# Altium integrated library Lattice Semiconductor ispMACH 4000V.IntLib: 226 symbols (part 19 of 33)
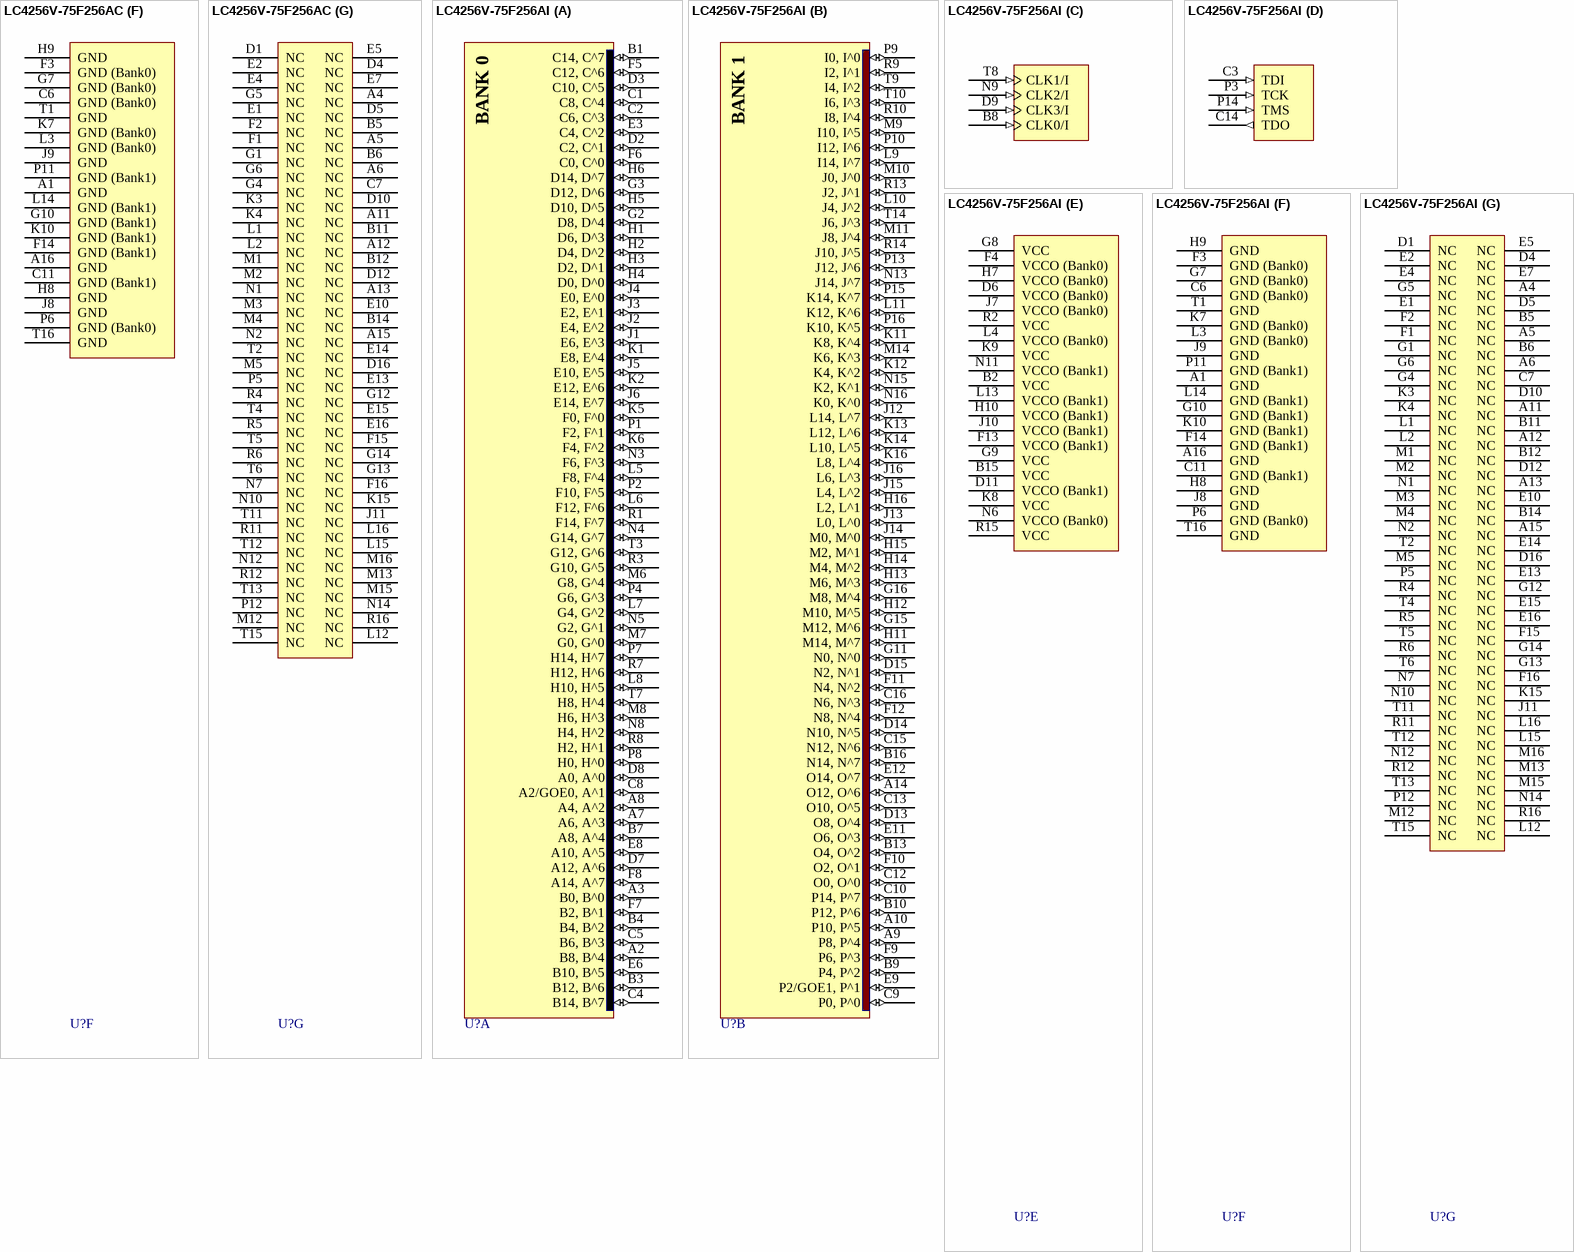
[diagram p145: symbols LC4256V-75F256AC to LC4256V-75F256AI]

## LC4256V-75F256AI
designator U?
ispMACH 4256 SuperFAST High Density PLD, 3.3 V, 128 User I/Os, 256-Ball fpBGA, 7.5 ns, Industrial Grade; DatasheetVersion: ver22.3, Mar-2007; PackageVersion: ver01.8, Dec-2008; PackageReference: fpBGA256; PackageDescription: 256-Ball Fine Pitch Ball Grid Array (fpBGA256); Code_IPC: BGA100P16X16-256; ComponentLink1Description: Manufacturer URL; ComponentLink1URL: http://www.latticesemi.com/; ComponentLink2Description: Datasheet; ComponentLink2URL: http://www.latticesemi.com/dynamic/view_document.cfm?document_id=3646
footprint fpBGA256 (BGA, 256-Leads, Body 17x17mm, Pitch 1mm)
part A pins: A2 B8, B^4 (io) "General purpose I/O.", A3 B0, B^0 (io) "General purpose I/O.", A7 A6, A^3 (io) "General purpose I/O.", A8 A4, A^2 (io) "General purpose I/O.", B1 C14, C^7 (io) "General purpose I/O.", B3 B12, B^6 (io) "General purpose I/O.", B4 B4, B^2 (io) "General purpose I/O.", B7 A8, A^4 (io) "General purpose I/O.", C1 C8, C^4 (io) "General purpose I/O.", C2 C6, C^3 (io) "General purpose I/O.", C4 B14, B^7 (io) "General purpose I/O.", C5 B6, B^3 (io) "General purpose I/O.", C8 A2/GOE0, A^1 (io) "Either Global Output Enable Input or general I/O.", D2 C2, C^1 (io) "General purpose I/O.", D3 C10, C^5 (io) "General purpose I/O.", D7 A12, A^6 (io) "General purpose I/O.", D8 A0, A^0 (io) "General purpose I/O.", E3 C4, C^2 (io) "General purpose I/O.", E6 B10, B^5 (io) "General purpose I/O.", E8 A10, A^5 (io) "General purpose I/O.", F5 C12, C^6 (io) "General purpose I/O.", F6 C0, C^0 (io) "General purpose I/O.", F7 B2, B^1 (io) "General purpose I/O.", F8 A14, A^7 (io) "General purpose I/O.", G2 D8, D^4 (io) "General purpose I/O.", G3 D12, D^6 (io) "General purpose I/O.", H1 D6, D^3 (io) "General purpose I/O.", H2 D4, D^2 (io) "General purpose I/O.", H3 D2, D^1 (io) "General purpose I/O.", H4 D0, D^0 (io) "General purpose I/O.", H5 D10, D^5 (io) "General purpose I/O.", H6 D14, D^7 (io) "General purpose I/O.", J1 E6, E^3 (io) "General purpose I/O.", J2 E4, E^2 (io) "General purpose I/O.", J3 E2, E^1 (io) "General purpose I/O.", J4 E0, E^0 (io) "General purpose I/O.", J5 E10, E^5 (io) "General purpose I/O.", J6 E14, E^7 (io) "General purpose I/O.", K1 E8, E^4 (io) "General purpose I/O.", K2 E12, E^6 (io) "General purpose I/O.", K5 F0, F^0 (io) "General purpose I/O.", K6 F4, F^2 (io) "General purpose I/O.", L5 F8, F^4 (io) "General purpose I/O.", L6 F12, F^6 (io) "General purpose I/O.", L7 G4, G^2 (io) "General purpose I/O.", L8 H10, H^5 (io) "General purpose I/O.", M6 G8, G^4 (io) "General purpose I/O.", M7 G0, G^0 (io) "General purpose I/O.", M8 H6, H^3 (io) "General purpose I/O.", N3 F6, F^3 (io) "General purpose I/O.", N4 G14, G^7 (io) "General purpose I/O.", N5 G2, G^1 (io) "General purpose I/O.", N8 H4, H^2 (io) "General purpose I/O.", P1 F2, F^1 (io) "General purpose I/O.", P2 F10, F^5 (io) "General purpose I/O.", P4 G6, G^3 (io) "General purpose I/O.", P7 H14, H^7 (io) "General purpose I/O.", P8 H0, H^0 (io) "General purpose I/O.", R1 F14, F^7 (io) "General purpose I/O.", R3 G10, G^5 (io) "General purpose I/O.", R7 H12, H^6 (io) "General purpose I/O.", R8 H2, H^1 (io) "General purpose I/O.", T3 G12, G^6 (io) "General purpose I/O.", T7 H8, H^4 (io) "General purpose I/O."
part B pins: A9 P8, P^4 (io) "General purpose I/O.", A10 P10, P^5 (io) "General purpose I/O.", A14 O12, O^6 (io) "General purpose I/O.", B9 P4, P^2 (io) "General purpose I/O.", B10 P12, P^6 (io) "General purpose I/O.", B13 O4, O^2 (io) "General purpose I/O.", B16 N14, N^7 (io) "General purpose I/O.", C9 P0, P^0 (io) "General purpose I/O.", C10 P14, P^7 (io) "General purpose I/O.", C12 O0, O^0 (io) "General purpose I/O.", C13 O10, O^5 (io) "General purpose I/O.", C15 N12, N^6 (io) "General purpose I/O.", C16 N6, N^3 (io) "General purpose I/O.", D13 O8, O^4 (io) "General purpose I/O.", D14 N10, N^5 (io) "General purpose I/O.", D15 N2, N^1 (io) "General purpose I/O.", E9 P2/GOE1, P^1 (io) "Either Global Output Enable Input or general I/O.", E11 O6, O^3 (io) "General purpose I/O.", E12 O14, O^7 (io) "General purpose I/O.", F9 P6, P^3 (io) "General purpose I/O.", F10 O2, O^1 (io) "General purpose I/O.", F11 N4, N^2 (io) "General purpose I/O.", F12 N8, N^4 (io) "General purpose I/O.", G11 N0, N^0 (io) "General purpose I/O.", G15 M12, M^6 (io) "General purpose I/O.", G16 M8, M^4 (io) "General purpose I/O.", H11 M14, M^7 (io) "General purpose I/O.", H12 M10, M^5 (io) "General purpose I/O.", H13 M6, M^3 (io) "General purpose I/O.", H14 M4, M^2 (io) "General purpose I/O.", H15 M2, M^1 (io) "General purpose I/O.", H16 L2, L^1 (io) "General purpose I/O.", J12 L14, L^7 (io) "General purpose I/O.", J13 L0, L^0 (io) "General purpose I/O.", J14 M0, M^0 (io) "General purpose I/O.", J15 L4, L^2 (io) "General purpose I/O.", J16 L6, L^3 (io) "General purpose I/O.", K11 K8, K^4 (io) "General purpose I/O.", K12 K4, K^2 (io) "General purpose I/O.", K13 L12, L^6 (io) "General purpose I/O.", K14 L10, L^5 (io) "General purpose I/O.", K16 L8, L^4 (io) "General purpose I/O.", L9 I14, I^7 (io) "General purpose I/O.", L10 J4, J^2 (io) "General purpose I/O.", L11 K12, K^6 (io) "General purpose I/O.", M9 I10, I^5 (io) "General purpose I/O.", M10 J0, J^0 (io) "General purpose I/O.", M11 J8, J^4 (io) "General purpose I/O.", M14 K6, K^3 (io) "General purpose I/O.", N13 J14, J^7 (io) "General purpose I/O.", N15 K2, K^1 (io) "General purpose I/O.", N16 K0, K^0 (io) "General purpose I/O.", P9 I0, I^0 (io) "General purpose I/O.", P10 I12, I^6 (io) "General purpose I/O.", P13 J12, J^6 (io) "General purpose I/O.", P15 K14, K^7 (io) "General purpose I/O.", P16 K10, K^5 (io) "General purpose I/O.", R9 I2, I^1 (io) "General purpose I/O.", R10 I8, I^4 (io) "General purpose I/O.", R13 J2, J^1 (io) "General purpose I/O.", R14 J10, J^5 (io) "General purpose I/O.", T9 I4, I^2 (io) "General purpose I/O.", T10 I6, I^3 (io) "General purpose I/O.", T14 J6, J^3 (io) "General purpose I/O."
part C pins: B8 CLK0/I (in) "Either CLK input or input.", D9 CLK3/I (in) "Either CLK input or input.", N9 CLK2/I (in) "Either CLK input or input.", T8 CLK1/I (in) "Either CLK input or input."
part D pins: C3 TDI (in) "Test Data Input. Loads data into device using 1149.1 state machine.", C14 TDO (out) "Test Data Output. Shifts data out of device using 1149.1.", P3 TCK (in) "Test Clock Input for 1149.1 state machine.", P14 TMS (in) "Test Mode Select Input to control 1149.1 state machine."
part E pins: B2 VCC (power) "Power supply for logic core and JTAG port.", B15 VCC (power) "Power supply for logic core and JTAG port.", D6 VCCO (Bank0) (power) "Power supply pin for I/O bank.", D11 VCCO (Bank1) (power) "Power supply pin for I/O bank.", F4 VCCO (Bank0) (power) "Power supply pin for I/O bank.", F13 VCCO (Bank1) (power) "Power supply pin for I/O bank.", G8 VCC (power) "Power supply for logic core and JTAG port.", G9 VCC (power) "Power supply for logic core and JTAG port.", H7 VCCO (Bank0) (power) "Power supply pin for I/O bank.", H10 VCCO (Bank1) (power) "Power supply pin for I/O bank.", J7 VCCO (Bank0) (power) "Power supply pin for I/O bank.", J10 VCCO (Bank1) (power) "Power supply pin for I/O bank.", K8 VCC (power) "Power supply for logic core and JTAG port.", K9 VCC (power) "Power supply for logic core and JTAG port.", L4 VCCO (Bank0) (power) "Power supply pin for I/O bank.", L13 VCCO (Bank1) (power) "Power supply pin for I/O bank.", N6 VCCO (Bank0) (power) "Power supply pin for I/O bank.", N11 VCCO (Bank1) (power) "Power supply pin for I/O bank.", R2 VCC (power) "Power supply for logic core and JTAG port.", R15 VCC (power) "Power supply for logic core and JTAG port."
part F pins: A1 GND (power) "Ground", A16 GND (power) "Ground", C6 GND (Bank0) (power) "I/O Ground", C11 GND (Bank1) (power) "I/O Ground", F3 GND (Bank0) (power) "I/O Ground", F14 GND (Bank1) (power) "I/O Ground", G7 GND (Bank0) (power) "I/O Ground", G10 GND (Bank1) (power) "I/O Ground", H8 GND (power) "Ground", H9 GND (power) "Ground", J8 GND (power) "Ground", J9 GND (power) "Ground", K7 GND (Bank0) (power) "I/O Ground", K10 GND (Bank1) (power) "I/O Ground", L3 GND (Bank0) (power) "I/O Ground", L14 GND (Bank1) (power) "I/O Ground", P6 GND (Bank0) (power) "I/O Ground", P11 GND (Bank1) (power) "I/O Ground", T1 GND (power) "Ground", T16 GND (power) "Ground"
part G pins: A4 NC "Not Connected.", A5 NC "Not Connected.", A6 NC "Not Connected.", A11 NC "Not Connected.", A12 NC "Not Connected.", A13 NC "Not Connected.", A15 NC "Not Connected.", B5 NC "Not Connected.", B6 NC "Not Connected.", B11 NC "Not Connected.", B12 NC "Not Connected.", B14 NC "Not Connected.", C7 NC "Not Connected.", D1 NC "Not Connected.", D4 NC "Not Connected.", D5 NC "Not Connected.", D10 NC "Not Connected.", D12 NC "Not Connected.", D16 NC "Not Connected.", E1 NC "Not Connected.", E2 NC "Not Connected.", E4 NC "Not Connected.", E5 NC "Not Connected.", E7 NC "Not Connected.", E10 NC "Not Connected.", E13 NC "Not Connected.", E14 NC "Not Connected.", E15 NC "Not Connected.", E16 NC "Not Connected.", F1 NC "Not Connected.", F2 NC "Not Connected.", F15 NC "Not Connected.", F16 NC "Not Connected.", G1 NC "Not Connected.", G4 NC "Not Connected.", G5 NC "Not Connected.", G6 NC "Not Connected.", G12 NC "Not Connected.", G13 NC "Not Connected.", G14 NC "Not Connected.", J11 NC "Not Connected.", K3 NC "Not Connected.", K4 NC "Not Connected.", K15 NC "Not Connected.", L1 NC "Not Connected.", L2 NC "Not Connected.", L12 NC "Not Connected.", L15 NC "Not Connected.", L16 NC "Not Connected.", M1 NC "Not Connected.", M2 NC "Not Connected.", M3 NC "Not Connected.", M4 NC "Not Connected.", M5 NC "Not Connected.", M12 NC "Not Connected.", M13 NC "Not Connected.", M15 NC "Not Connected.", M16 NC "Not Connected.", N1 NC "Not Connected.", N2 NC "Not Connected.", N7 NC "Not Connected.", N10 NC "Not Connected.", N12 NC "Not Connected.", N14 NC "Not Connected.", P5 NC "Not Connected.", P12 NC "Not Connected.", R4 NC "Not Connected.", R5 NC "Not Connected.", R6 NC "Not Connected.", R11 NC "Not Connected.", R12 NC "Not Connected.", R16 NC "Not Connected.", T2 NC "Not Connected.", T4 NC "Not Connected.", T5 NC "Not Connected.", T6 NC "Not Connected.", T11 NC "Not Connected.", T12 NC "Not Connected.", T13 NC "Not Connected.", T15 NC "Not Connected."
part A text: BANK 0
part B text: BANK 1

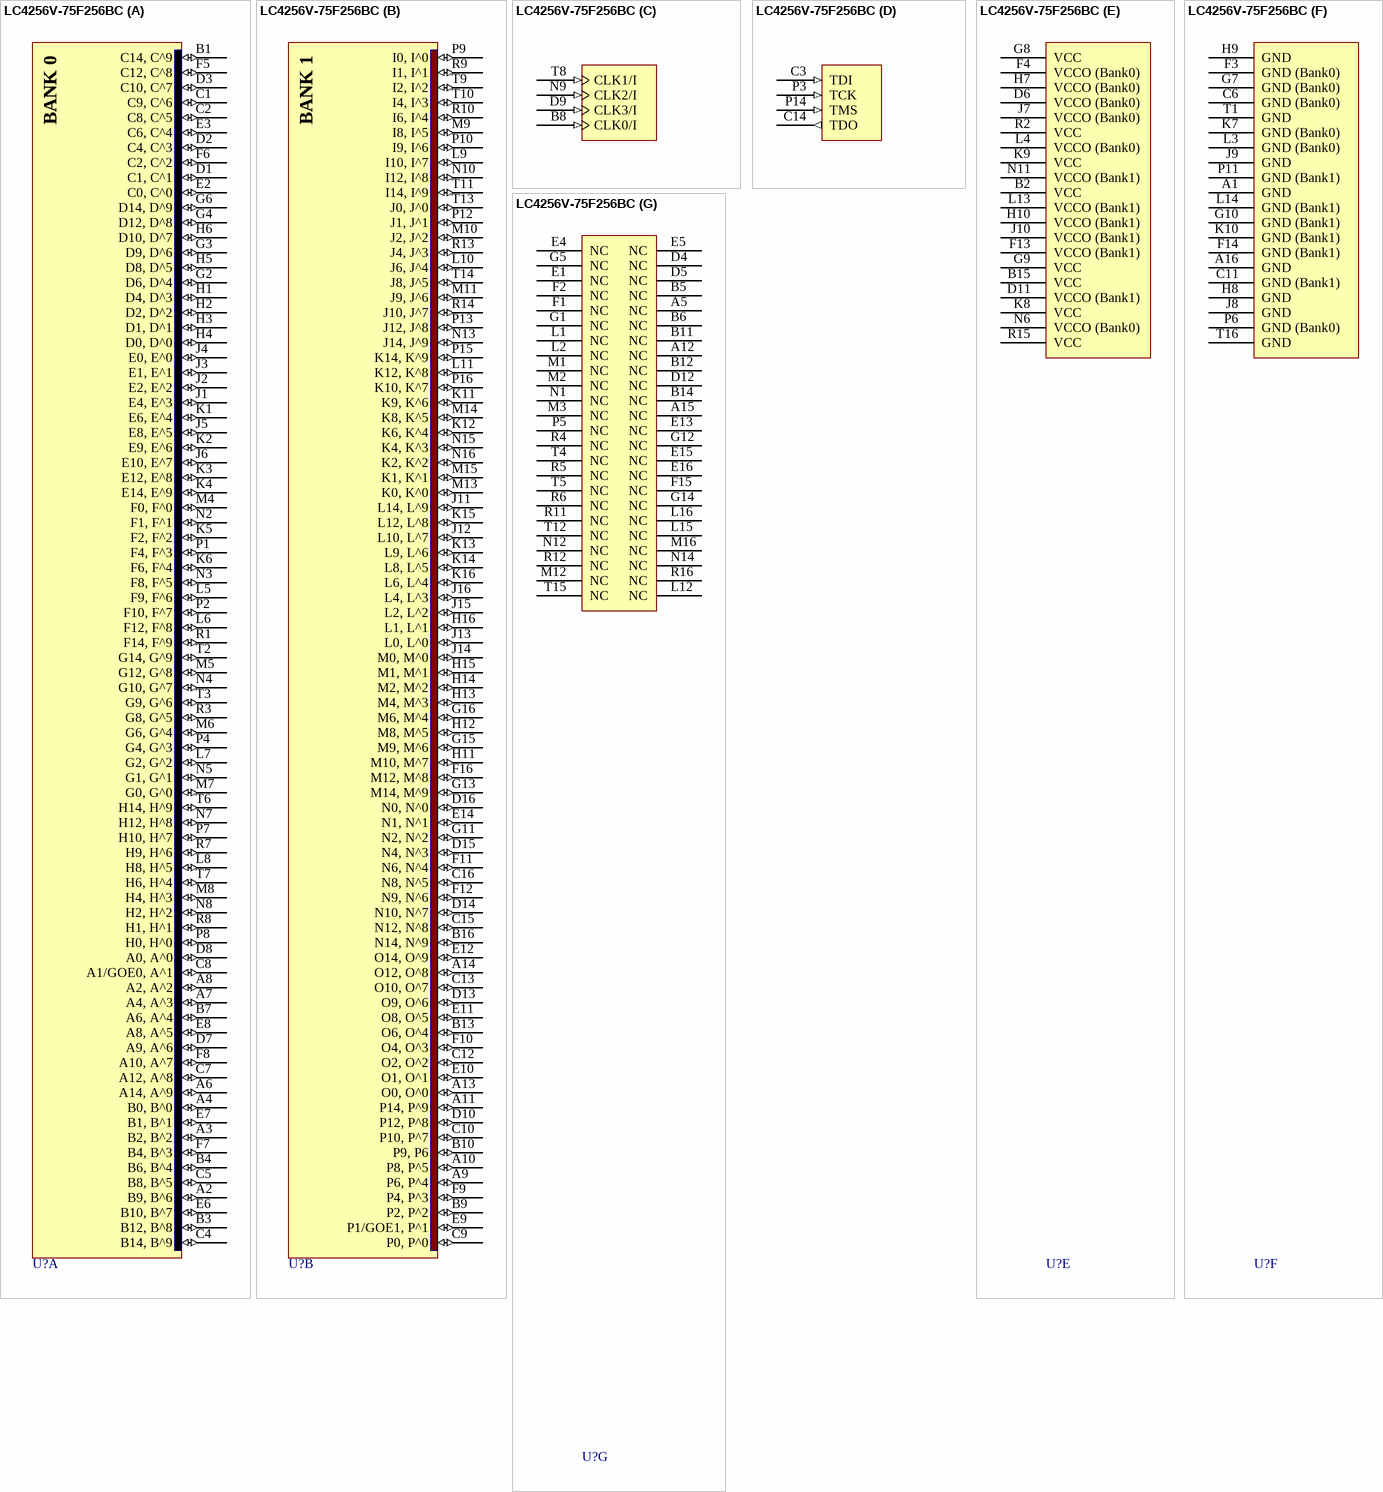
[diagram p69: symbol LC4256V-75F256BC]

## LC4256V-75F256BC
designator U?
ispMACH 4256 SuperFAST High Density PLD, 3.3 V, 160 User I/Os, 256-Ball fpBGA, 7.5 ns, Commercial Grade; DatasheetVersion: ver22.3, Mar-2007; PackageVersion: ver01.8, Dec-2008; PackageReference: fpBGA256; PackageDescription: 256-Ball Fine Pitch Ball Grid Array (fpBGA256); Code_IPC: BGA100P16X16-256; ComponentLink1Description: Manufacturer URL; ComponentLink1URL: http://www.latticesemi.com/; ComponentLink2Description: Datasheet; ComponentLink2URL: http://www.latticesemi.com/dynamic/view_document.cfm?document_id=3646
footprint fpBGA256 (BGA, 256-Leads, Body 17x17mm, Pitch 1mm)
part A pins: A2 B9, B^6 (io) "General purpose I/O.", A3 B2, B^2 (io) "General purpose I/O.", A4 B0, B^0 (io) "General purpose I/O.", A6 A14, A^9 (io) "General purpose I/O.", A7 A4, A^3 (io) "General purpose I/O.", A8 A2, A^2 (io) "General purpose I/O.", B1 C14, C^9 (io) "General purpose I/O.", B3 B12, B^8 (io) "General purpose I/O.", B4 B6, B^4 (io) "General purpose I/O.", B7 A6, A^4 (io) "General purpose I/O.", C1 C9, C^6 (io) "General purpose I/O.", C2 C8, C^5 (io) "General purpose I/O.", C4 B14, B^9 (io) "General purpose I/O.", C5 B8, B^5 (io) "General purpose I/O.", C7 A12, A^8 (io) "General purpose I/O.", C8 A1/GOE0, A^1 (io) "Either Global Output Enable Input or general I/O.", D1 C1, C^1 (io) "General purpose I/O.", D2 C4, C^3 (io) "General purpose I/O.", D3 C10, C^7 (io) "General purpose I/O.", D7 A9, A^6 (io) "General purpose I/O.", D8 A0, A^0 (io) "General purpose I/O.", E2 C0, C^0 (io) "General purpose I/O.", E3 C6, C^4 (io) "General purpose I/O.", E6 B10, B^7 (io) "General purpose I/O.", E7 B1, B^1 (io) "General purpose I/O.", E8 A8, A^5 (io) "General purpose I/O.", F5 C12, C^8 (io) "General purpose I/O.", F6 C2, C^2 (io) "General purpose I/O.", F7 B4, B^3 (io) "General purpose I/O.", F8 A10, A^7 (io) "General purpose I/O.", G2 D6, D^4 (io) "General purpose I/O.", G3 D9, D^6 (io) "General purpose I/O.", G4 D12, D^8 (io) "General purpose I/O.", G6 D14, D^9 (io) "General purpose I/O.", H1 D4, D^3 (io) "General purpose I/O.", H2 D2, D^2 (io) "General purpose I/O.", H3 D1, D^1 (io) "General purpose I/O.", H4 D0, D^0 (io) "General purpose I/O.", H5 D8, D^5 (io) "General purpose I/O.", H6 D10, D^7 (io) "General purpose I/O.", J1 E4, E^3 (io) "General purpose I/O.", J2 E2, E^2 (io) "General purpose I/O.", J3 E1, E^1 (io) "General purpose I/O.", J4 E0, E^0 (io) "General purpose I/O.", J5 E8, E^5 (io) "General purpose I/O.", J6 E10, E^7 (io) "General purpose I/O.", K1 E6, E^4 (io) "General purpose I/O.", K2 E9, E^6 (io) "General purpose I/O.", K3 E12, E^8 (io) "General purpose I/O.", K4 E14, E^9 (io) "General purpose I/O.", K5 F2, F^2 (io) "General purpose I/O.", K6 F6, F^4 (io) "General purpose I/O.", L5 F9, F^6 (io) "General purpose I/O.", L6 F12, F^8 (io) "General purpose I/O.", L7 G2, G^2 (io) "General purpose I/O.", L8 H8, H^5 (io) "General purpose I/O.", M4 F0, F^0 (io) "General purpose I/O.", M5 G12, G^8 (io) "General purpose I/O.", M6 G6, G^4 (io) "General purpose I/O.", M7 G0, G^0 (io) "General purpose I/O.", M8 H4, H^3 (io) "General purpose I/O.", N2 F1, F^1 (io) "General purpose I/O.", N3 F8, F^5 (io) "General purpose I/O.", N4 G10, G^7 (io) "General purpose I/O.", N5 G1, G^1 (io) "General purpose I/O.", N7 H12, H^8 (io) "General purpose I/O.", N8 H2, H^2 (io) "General purpose I/O.", P1 F4, F^3 (io) "General purpose I/O.", P2 F10, F^7 (io) "General purpose I/O.", P4 G4, G^3 (io) "General purpose I/O.", P7 H10, H^7 (io) "General purpose I/O.", P8 H0, H^0 (io) "General purpose I/O.", R1 F14, F^9 (io) "General purpose I/O.", R3 G8, G^5 (io) "General purpose I/O.", R7 H9, H^6 (io) "General purpose I/O.", R8 H1, H^1 (io) "General purpose I/O.", T2 G14, G^9 (io) "General purpose I/O.", T3 G9, G^6 (io) "General purpose I/O.", T6 H14, H^9 (io) "General purpose I/O.", T7 H6, H^4 (io) "General purpose I/O."
part B pins: A9 P6, P^4 (io) "General purpose I/O.", A10 P8, P^5 (io) "General purpose I/O.", A11 P14, P^9 (io) "General purpose I/O.", A13 O0, O^0 (io) "General purpose I/O.", A14 O12, O^8 (io) "General purpose I/O.", B9 P2, P^2 (io) "General purpose I/O.", B10 P9, P6 (io) "General purpose I/O.", B13 O6, O^4 (io) "General purpose I/O.", B16 N14, N^9 (io) "General purpose I/O.", C9 P0, P^0 (io) "General purpose I/O.", C10 P10, P^7 (io) "General purpose I/O.", C12 O2, O^2 (io) "General purpose I/O.", C13 O10, O^7 (io) "General purpose I/O.", C15 N12, N^8 (io) "General purpose I/O.", C16 N8, N^5 (io) "General purpose I/O.", D10 P12, P^8 (io) "General purpose I/O.", D13 O9, O^6 (io) "General purpose I/O.", D14 N10, N^7 (io) "General purpose I/O.", D15 N4, N^3 (io) "General purpose I/O.", D16 N0, N^0 (io) "General purpose I/O.", E9 P1/GOE1, P^1 (io) "Either Global Output Enable Input or general I/O.", E10 O1, O^1 (io) "General purpose I/O.", E11 O8, O^5 (io) "General purpose I/O.", E12 O14, O^9 (io) "General purpose I/O.", E14 N1, N^1 (io) "General purpose I/O.", F9 P4, P^3 (io) "General purpose I/O.", F10 O4, O^3 (io) "General purpose I/O.", F11 N6, N^4 (io) "General purpose I/O.", F12 N9, N^6 (io) "General purpose I/O.", F16 M12, M^8 (io) "General purpose I/O.", G11 N2, N^2 (io) "General purpose I/O.", G13 M14, M^9 (io) "General purpose I/O.", G15 M9, M^6 (io) "General purpose I/O.", G16 M6, M^4 (io) "General purpose I/O.", H11 M10, M^7 (io) "General purpose I/O.", H12 M8, M^5 (io) "General purpose I/O.", H13 M4, M^3 (io) "General purpose I/O.", H14 M2, M^2 (io) "General purpose I/O.", H15 M1, M^1 (io) "General purpose I/O.", H16 L1, L^1 (io) "General purpose I/O.", J11 L14, L^9 (io) "General purpose I/O.", J12 L10, L^7 (io) "General purpose I/O.", J13 L0, L^0 (io) "General purpose I/O.", J14 M0, M^0 (io) "General purpose I/O.", J15 L2, L^2 (io) "General purpose I/O.", J16 L4, L^3 (io) "General purpose I/O.", K11 K9, K^6 (io) "General purpose I/O.", K12 K6, K^4 (io) "General purpose I/O.", K13 L9, L^6 (io) "General purpose I/O.", K14 L8, L^5 (io) "General purpose I/O.", K15 L12, L^8 (io) "General purpose I/O.", K16 L6, L^4 (io) "General purpose I/O.", L9 I10, I^7 (io) "General purpose I/O.", L10 J6, J^4 (io) "General purpose I/O.", L11 K12, K^8 (io) "General purpose I/O.", M9 I8, I^5 (io) "General purpose I/O.", M10 J2, J^2 (io) "General purpose I/O.", M11 J9, J^6 (io) "General purpose I/O.", M13 K0, K^0 (io) "General purpose I/O.", M14 K8, K^5 (io) "General purpose I/O.", M15 K1, K^1 (io) "General purpose I/O.", N10 I12, I^8 (io) "General purpose I/O.", N13 J14, J^9 (io) "General purpose I/O.", N15 K4, K^3 (io) "General purpose I/O.", N16 K2, K^2 (io) "General purpose I/O.", P9 I0, I^0 (io) "General purpose I/O.", P10 I9, I^6 (io) "General purpose I/O.", P12 J1, J^1 (io) "General purpose I/O.", P13 J12, J^8 (io) "General purpose I/O.", P15 K14, K^9 (io) "General purpose I/O.", P16 K10, K^7 (io) "General purpose I/O.", R9 I1, I^1 (io) "General purpose I/O.", R10 I6, I^4 (io) "General purpose I/O.", R13 J4, J^3 (io) "General purpose I/O.", R14 J10, J^7 (io) "General purpose I/O.", T9 I2, I^2 (io) "General purpose I/O.", T10 I4, I^3 (io) "General purpose I/O.", T11 I14, I^9 (io) "General purpose I/O.", T13 J0, J^0 (io) "General purpose I/O.", T14 J8, J^5 (io) "General purpose I/O."
part C pins: B8 CLK0/I (in) "Either CLK input or input.", D9 CLK3/I (in) "Either CLK input or input.", N9 CLK2/I (in) "Either CLK input or input.", T8 CLK1/I (in) "Either CLK input or input."
part D pins: C3 TDI (in) "Test Data Input. Loads data into device using 1149.1 state machine.", C14 TDO (out) "Test Data Output. Shifts data out of device using 1149.1.", P3 TCK (in) "Test Clock Input for 1149.1 state machine.", P14 TMS (in) "Test Mode Select Input to control 1149.1 state machine."
part E pins: B2 VCC (power) "Power supply for logic core and JTAG port.", B15 VCC (power) "Power supply for logic core and JTAG port.", D6 VCCO (Bank0) (power) "Power supply pin for I/O bank.", D11 VCCO (Bank1) (power) "Power supply pin for I/O bank.", F4 VCCO (Bank0) (power) "Power supply pin for I/O bank.", F13 VCCO (Bank1) (power) "Power supply pin for I/O bank.", G8 VCC (power) "Power supply for logic core and JTAG port.", G9 VCC (power) "Power supply for logic core and JTAG port.", H7 VCCO (Bank0) (power) "Power supply pin for I/O bank.", H10 VCCO (Bank1) (power) "Power supply pin for I/O bank.", J7 VCCO (Bank0) (power) "Power supply pin for I/O bank.", J10 VCCO (Bank1) (power) "Power supply pin for I/O bank.", K8 VCC (power) "Power supply for logic core and JTAG port.", K9 VCC (power) "Power supply for logic core and JTAG port.", L4 VCCO (Bank0) (power) "Power supply pin for I/O bank.", L13 VCCO (Bank1) (power) "Power supply pin for I/O bank.", N6 VCCO (Bank0) (power) "Power supply pin for I/O bank.", N11 VCCO (Bank1) (power) "Power supply pin for I/O bank.", R2 VCC (power) "Power supply for logic core and JTAG port.", R15 VCC (power) "Power supply for logic core and JTAG port."
part F pins: A1 GND (power) "Ground", A16 GND (power) "Ground", C6 GND (Bank0) (power) "I/O Ground", C11 GND (Bank1) (power) "I/O Ground", F3 GND (Bank0) (power) "I/O Ground", F14 GND (Bank1) (power) "I/O Ground", G7 GND (Bank0) (power) "I/O Ground", G10 GND (Bank1) (power) "I/O Ground", H8 GND (power) "Ground", H9 GND (power) "Ground", J8 GND (power) "Ground", J9 GND (power) "Ground", K7 GND (Bank0) (power) "I/O Ground", K10 GND (Bank1) (power) "I/O Ground", L3 GND (Bank0) (power) "I/O Ground", L14 GND (Bank1) (power) "I/O Ground", P6 GND (Bank0) (power) "I/O Ground", P11 GND (Bank1) (power) "I/O Ground", T1 GND (power) "Ground", T16 GND (power) "Ground"
part G pins: A5 NC "Not Connected.", A12 NC "Not Connected.", A15 NC "Not Connected.", B5 NC "Not Connected.", B6 NC "Not Connected.", B11 NC "Not Connected.", B12 NC "Not Connected.", B14 NC "Not Connected.", D4 NC "Not Connected.", D5 NC "Not Connected.", D12 NC "Not Connected.", E1 NC "Not Connected.", E4 NC "Not Connected.", E5 NC "Not Connected.", E13 NC "Not Connected.", E15 NC "Not Connected.", E16 NC "Not Connected.", F1 NC "Not Connected.", F2 NC "Not Connected.", F15 NC "Not Connected.", G1 NC "Not Connected.", G5 NC "Not Connected.", G12 NC "Not Connected.", G14 NC "Not Connected.", L1 NC "Not Connected.", L2 NC "Not Connected.", L12 NC "Not Connected.", L15 NC "Not Connected.", L16 NC "Not Connected.", M1 NC "Not Connected.", M2 NC "Not Connected.", M3 NC "Not Connected.", M12 NC "Not Connected.", M16 NC "Not Connected.", N1 NC "Not Connected.", N12 NC "Not Connected.", N14 NC "Not Connected.", P5 NC "Not Connected.", R4 NC "Not Connected.", R5 NC "Not Connected.", R6 NC "Not Connected.", R11 NC "Not Connected.", R12 NC "Not Connected.", R16 NC "Not Connected.", T4 NC "Not Connected.", T5 NC "Not Connected.", T12 NC "Not Connected.", T15 NC "Not Connected."
part A text: BANK 0
part B text: BANK 1

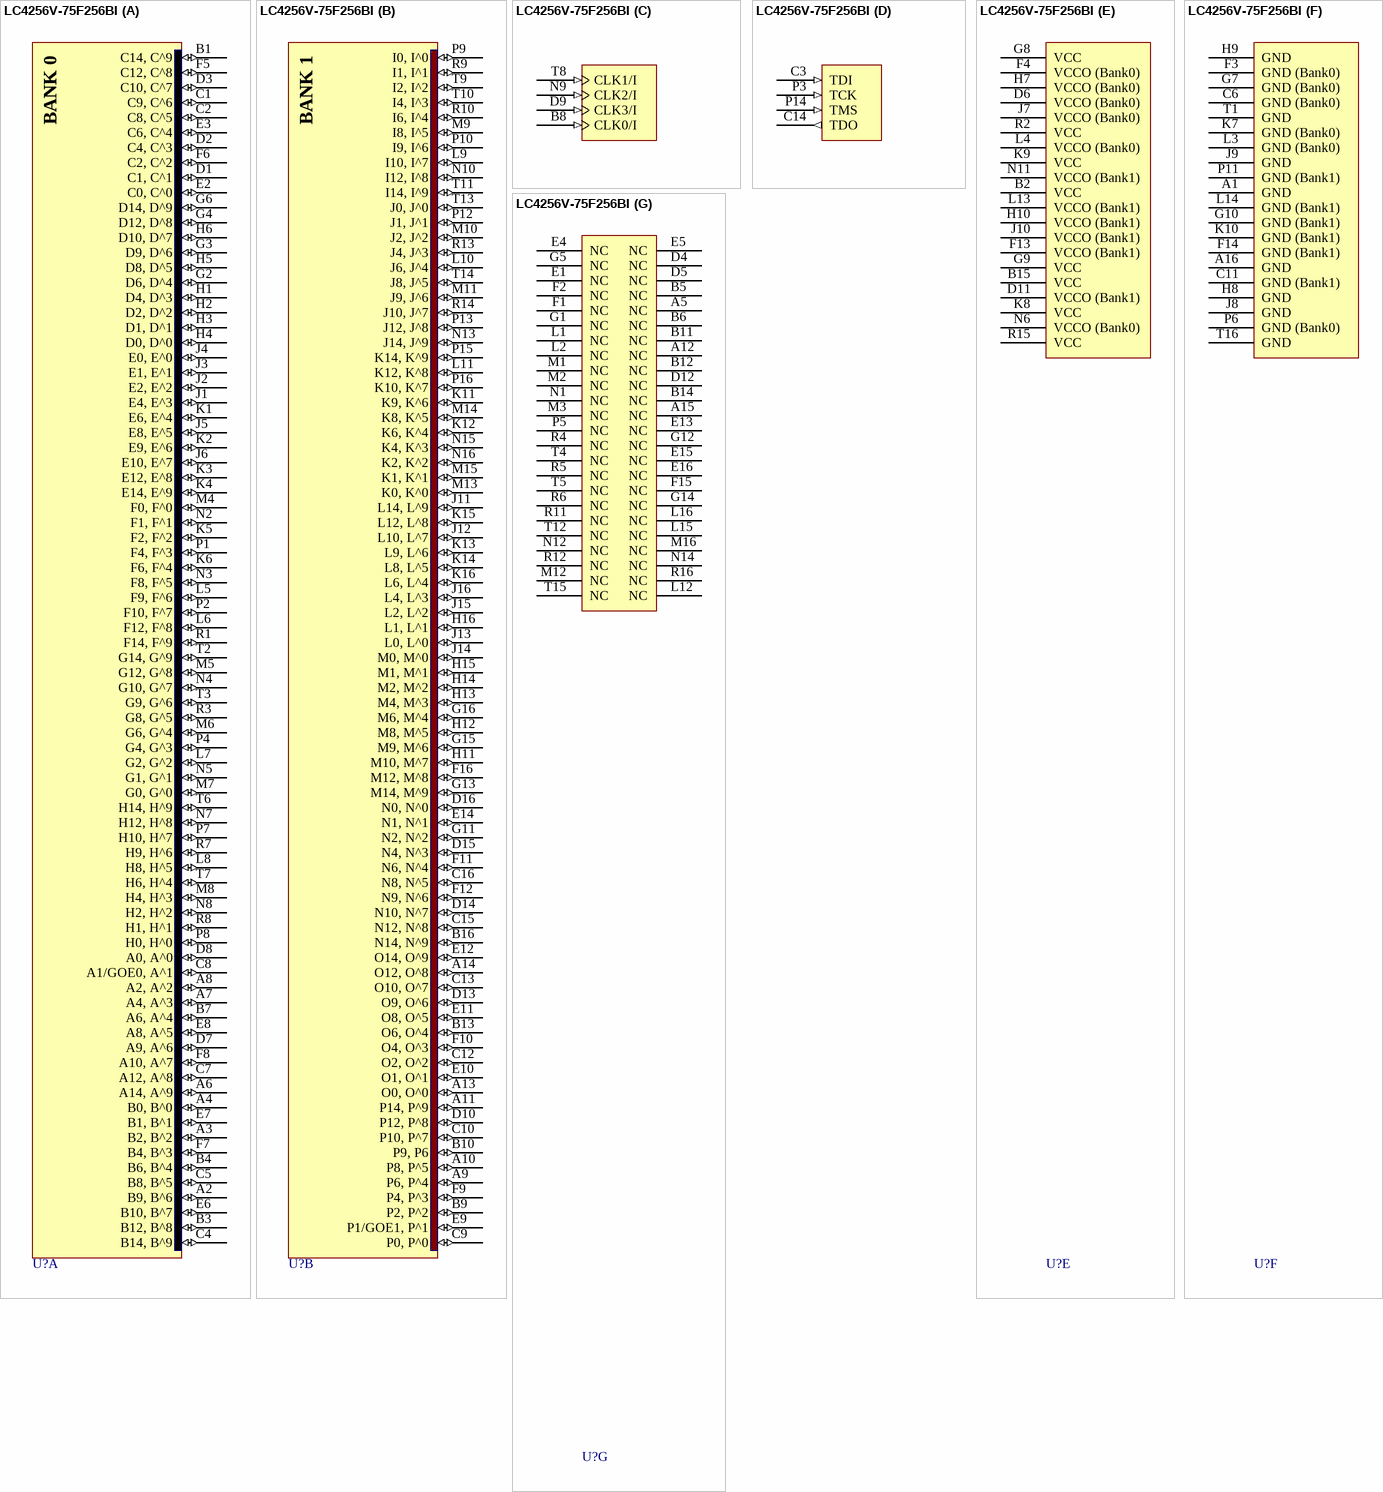
[diagram p70: symbol LC4256V-75F256BI]

## LC4256V-75F256BI
designator U?
ispMACH 4256 SuperFAST High Density PLD, 3.3 V, 160 User I/Os, 256-Ball fpBGA, 7.5 ns, Industrial Grade; DatasheetVersion: ver22.3, Mar-2007; PackageVersion: ver01.8, Dec-2008; PackageReference: fpBGA256; PackageDescription: 256-Ball Fine Pitch Ball Grid Array (fpBGA256); Code_IPC: BGA100P16X16-256; ComponentLink1Description: Manufacturer URL; ComponentLink1URL: http://www.latticesemi.com/; ComponentLink2Description: Datasheet; ComponentLink2URL: http://www.latticesemi.com/dynamic/view_document.cfm?document_id=3646
footprint fpBGA256 (BGA, 256-Leads, Body 17x17mm, Pitch 1mm)
part A pins: A2 B9, B^6 (io) "General purpose I/O.", A3 B2, B^2 (io) "General purpose I/O.", A4 B0, B^0 (io) "General purpose I/O.", A6 A14, A^9 (io) "General purpose I/O.", A7 A4, A^3 (io) "General purpose I/O.", A8 A2, A^2 (io) "General purpose I/O.", B1 C14, C^9 (io) "General purpose I/O.", B3 B12, B^8 (io) "General purpose I/O.", B4 B6, B^4 (io) "General purpose I/O.", B7 A6, A^4 (io) "General purpose I/O.", C1 C9, C^6 (io) "General purpose I/O.", C2 C8, C^5 (io) "General purpose I/O.", C4 B14, B^9 (io) "General purpose I/O.", C5 B8, B^5 (io) "General purpose I/O.", C7 A12, A^8 (io) "General purpose I/O.", C8 A1/GOE0, A^1 (io) "Either Global Output Enable Input or general I/O.", D1 C1, C^1 (io) "General purpose I/O.", D2 C4, C^3 (io) "General purpose I/O.", D3 C10, C^7 (io) "General purpose I/O.", D7 A9, A^6 (io) "General purpose I/O.", D8 A0, A^0 (io) "General purpose I/O.", E2 C0, C^0 (io) "General purpose I/O.", E3 C6, C^4 (io) "General purpose I/O.", E6 B10, B^7 (io) "General purpose I/O.", E7 B1, B^1 (io) "General purpose I/O.", E8 A8, A^5 (io) "General purpose I/O.", F5 C12, C^8 (io) "General purpose I/O.", F6 C2, C^2 (io) "General purpose I/O.", F7 B4, B^3 (io) "General purpose I/O.", F8 A10, A^7 (io) "General purpose I/O.", G2 D6, D^4 (io) "General purpose I/O.", G3 D9, D^6 (io) "General purpose I/O.", G4 D12, D^8 (io) "General purpose I/O.", G6 D14, D^9 (io) "General purpose I/O.", H1 D4, D^3 (io) "General purpose I/O.", H2 D2, D^2 (io) "General purpose I/O.", H3 D1, D^1 (io) "General purpose I/O.", H4 D0, D^0 (io) "General purpose I/O.", H5 D8, D^5 (io) "General purpose I/O.", H6 D10, D^7 (io) "General purpose I/O.", J1 E4, E^3 (io) "General purpose I/O.", J2 E2, E^2 (io) "General purpose I/O.", J3 E1, E^1 (io) "General purpose I/O.", J4 E0, E^0 (io) "General purpose I/O.", J5 E8, E^5 (io) "General purpose I/O.", J6 E10, E^7 (io) "General purpose I/O.", K1 E6, E^4 (io) "General purpose I/O.", K2 E9, E^6 (io) "General purpose I/O.", K3 E12, E^8 (io) "General purpose I/O.", K4 E14, E^9 (io) "General purpose I/O.", K5 F2, F^2 (io) "General purpose I/O.", K6 F6, F^4 (io) "General purpose I/O.", L5 F9, F^6 (io) "General purpose I/O.", L6 F12, F^8 (io) "General purpose I/O.", L7 G2, G^2 (io) "General purpose I/O.", L8 H8, H^5 (io) "General purpose I/O.", M4 F0, F^0 (io) "General purpose I/O.", M5 G12, G^8 (io) "General purpose I/O.", M6 G6, G^4 (io) "General purpose I/O.", M7 G0, G^0 (io) "General purpose I/O.", M8 H4, H^3 (io) "General purpose I/O.", N2 F1, F^1 (io) "General purpose I/O.", N3 F8, F^5 (io) "General purpose I/O.", N4 G10, G^7 (io) "General purpose I/O.", N5 G1, G^1 (io) "General purpose I/O.", N7 H12, H^8 (io) "General purpose I/O.", N8 H2, H^2 (io) "General purpose I/O.", P1 F4, F^3 (io) "General purpose I/O.", P2 F10, F^7 (io) "General purpose I/O.", P4 G4, G^3 (io) "General purpose I/O.", P7 H10, H^7 (io) "General purpose I/O.", P8 H0, H^0 (io) "General purpose I/O.", R1 F14, F^9 (io) "General purpose I/O.", R3 G8, G^5 (io) "General purpose I/O.", R7 H9, H^6 (io) "General purpose I/O.", R8 H1, H^1 (io) "General purpose I/O.", T2 G14, G^9 (io) "General purpose I/O.", T3 G9, G^6 (io) "General purpose I/O.", T6 H14, H^9 (io) "General purpose I/O.", T7 H6, H^4 (io) "General purpose I/O."
part B pins: A9 P6, P^4 (io) "General purpose I/O.", A10 P8, P^5 (io) "General purpose I/O.", A11 P14, P^9 (io) "General purpose I/O.", A13 O0, O^0 (io) "General purpose I/O.", A14 O12, O^8 (io) "General purpose I/O.", B9 P2, P^2 (io) "General purpose I/O.", B10 P9, P6 (io) "General purpose I/O.", B13 O6, O^4 (io) "General purpose I/O.", B16 N14, N^9 (io) "General purpose I/O.", C9 P0, P^0 (io) "General purpose I/O.", C10 P10, P^7 (io) "General purpose I/O.", C12 O2, O^2 (io) "General purpose I/O.", C13 O10, O^7 (io) "General purpose I/O.", C15 N12, N^8 (io) "General purpose I/O.", C16 N8, N^5 (io) "General purpose I/O.", D10 P12, P^8 (io) "General purpose I/O.", D13 O9, O^6 (io) "General purpose I/O.", D14 N10, N^7 (io) "General purpose I/O.", D15 N4, N^3 (io) "General purpose I/O.", D16 N0, N^0 (io) "General purpose I/O.", E9 P1/GOE1, P^1 (io) "Either Global Output Enable Input or general I/O.", E10 O1, O^1 (io) "General purpose I/O.", E11 O8, O^5 (io) "General purpose I/O.", E12 O14, O^9 (io) "General purpose I/O.", E14 N1, N^1 (io) "General purpose I/O.", F9 P4, P^3 (io) "General purpose I/O.", F10 O4, O^3 (io) "General purpose I/O.", F11 N6, N^4 (io) "General purpose I/O.", F12 N9, N^6 (io) "General purpose I/O.", F16 M12, M^8 (io) "General purpose I/O.", G11 N2, N^2 (io) "General purpose I/O.", G13 M14, M^9 (io) "General purpose I/O.", G15 M9, M^6 (io) "General purpose I/O.", G16 M6, M^4 (io) "General purpose I/O.", H11 M10, M^7 (io) "General purpose I/O.", H12 M8, M^5 (io) "General purpose I/O.", H13 M4, M^3 (io) "General purpose I/O.", H14 M2, M^2 (io) "General purpose I/O.", H15 M1, M^1 (io) "General purpose I/O.", H16 L1, L^1 (io) "General purpose I/O.", J11 L14, L^9 (io) "General purpose I/O.", J12 L10, L^7 (io) "General purpose I/O.", J13 L0, L^0 (io) "General purpose I/O.", J14 M0, M^0 (io) "General purpose I/O.", J15 L2, L^2 (io) "General purpose I/O.", J16 L4, L^3 (io) "General purpose I/O.", K11 K9, K^6 (io) "General purpose I/O.", K12 K6, K^4 (io) "General purpose I/O.", K13 L9, L^6 (io) "General purpose I/O.", K14 L8, L^5 (io) "General purpose I/O.", K15 L12, L^8 (io) "General purpose I/O.", K16 L6, L^4 (io) "General purpose I/O.", L9 I10, I^7 (io) "General purpose I/O.", L10 J6, J^4 (io) "General purpose I/O.", L11 K12, K^8 (io) "General purpose I/O.", M9 I8, I^5 (io) "General purpose I/O.", M10 J2, J^2 (io) "General purpose I/O.", M11 J9, J^6 (io) "General purpose I/O.", M13 K0, K^0 (io) "General purpose I/O.", M14 K8, K^5 (io) "General purpose I/O.", M15 K1, K^1 (io) "General purpose I/O.", N10 I12, I^8 (io) "General purpose I/O.", N13 J14, J^9 (io) "General purpose I/O.", N15 K4, K^3 (io) "General purpose I/O.", N16 K2, K^2 (io) "General purpose I/O.", P9 I0, I^0 (io) "General purpose I/O.", P10 I9, I^6 (io) "General purpose I/O.", P12 J1, J^1 (io) "General purpose I/O.", P13 J12, J^8 (io) "General purpose I/O.", P15 K14, K^9 (io) "General purpose I/O.", P16 K10, K^7 (io) "General purpose I/O.", R9 I1, I^1 (io) "General purpose I/O.", R10 I6, I^4 (io) "General purpose I/O.", R13 J4, J^3 (io) "General purpose I/O.", R14 J10, J^7 (io) "General purpose I/O.", T9 I2, I^2 (io) "General purpose I/O.", T10 I4, I^3 (io) "General purpose I/O.", T11 I14, I^9 (io) "General purpose I/O.", T13 J0, J^0 (io) "General purpose I/O.", T14 J8, J^5 (io) "General purpose I/O."
part C pins: B8 CLK0/I (in) "Either CLK input or input.", D9 CLK3/I (in) "Either CLK input or input.", N9 CLK2/I (in) "Either CLK input or input.", T8 CLK1/I (in) "Either CLK input or input."
part D pins: C3 TDI (in) "Test Data Input. Loads data into device using 1149.1 state machine.", C14 TDO (out) "Test Data Output. Shifts data out of device using 1149.1.", P3 TCK (in) "Test Clock Input for 1149.1 state machine.", P14 TMS (in) "Test Mode Select Input to control 1149.1 state machine."
part E pins: B2 VCC (power) "Power supply for logic core and JTAG port.", B15 VCC (power) "Power supply for logic core and JTAG port.", D6 VCCO (Bank0) (power) "Power supply pin for I/O bank.", D11 VCCO (Bank1) (power) "Power supply pin for I/O bank.", F4 VCCO (Bank0) (power) "Power supply pin for I/O bank.", F13 VCCO (Bank1) (power) "Power supply pin for I/O bank.", G8 VCC (power) "Power supply for logic core and JTAG port.", G9 VCC (power) "Power supply for logic core and JTAG port.", H7 VCCO (Bank0) (power) "Power supply pin for I/O bank.", H10 VCCO (Bank1) (power) "Power supply pin for I/O bank.", J7 VCCO (Bank0) (power) "Power supply pin for I/O bank.", J10 VCCO (Bank1) (power) "Power supply pin for I/O bank.", K8 VCC (power) "Power supply for logic core and JTAG port.", K9 VCC (power) "Power supply for logic core and JTAG port.", L4 VCCO (Bank0) (power) "Power supply pin for I/O bank.", L13 VCCO (Bank1) (power) "Power supply pin for I/O bank.", N6 VCCO (Bank0) (power) "Power supply pin for I/O bank.", N11 VCCO (Bank1) (power) "Power supply pin for I/O bank.", R2 VCC (power) "Power supply for logic core and JTAG port.", R15 VCC (power) "Power supply for logic core and JTAG port."
part F pins: A1 GND (power) "Ground", A16 GND (power) "Ground", C6 GND (Bank0) (power) "I/O Ground", C11 GND (Bank1) (power) "I/O Ground", F3 GND (Bank0) (power) "I/O Ground", F14 GND (Bank1) (power) "I/O Ground", G7 GND (Bank0) (power) "I/O Ground", G10 GND (Bank1) (power) "I/O Ground", H8 GND (power) "Ground", H9 GND (power) "Ground", J8 GND (power) "Ground", J9 GND (power) "Ground", K7 GND (Bank0) (power) "I/O Ground", K10 GND (Bank1) (power) "I/O Ground", L3 GND (Bank0) (power) "I/O Ground", L14 GND (Bank1) (power) "I/O Ground", P6 GND (Bank0) (power) "I/O Ground", P11 GND (Bank1) (power) "I/O Ground", T1 GND (power) "Ground", T16 GND (power) "Ground"
part G pins: A5 NC "Not Connected.", A12 NC "Not Connected.", A15 NC "Not Connected.", B5 NC "Not Connected.", B6 NC "Not Connected.", B11 NC "Not Connected.", B12 NC "Not Connected.", B14 NC "Not Connected.", D4 NC "Not Connected.", D5 NC "Not Connected.", D12 NC "Not Connected.", E1 NC "Not Connected.", E4 NC "Not Connected.", E5 NC "Not Connected.", E13 NC "Not Connected.", E15 NC "Not Connected.", E16 NC "Not Connected.", F1 NC "Not Connected.", F2 NC "Not Connected.", F15 NC "Not Connected.", G1 NC "Not Connected.", G5 NC "Not Connected.", G12 NC "Not Connected.", G14 NC "Not Connected.", L1 NC "Not Connected.", L2 NC "Not Connected.", L12 NC "Not Connected.", L15 NC "Not Connected.", L16 NC "Not Connected.", M1 NC "Not Connected.", M2 NC "Not Connected.", M3 NC "Not Connected.", M12 NC "Not Connected.", M16 NC "Not Connected.", N1 NC "Not Connected.", N12 NC "Not Connected.", N14 NC "Not Connected.", P5 NC "Not Connected.", R4 NC "Not Connected.", R5 NC "Not Connected.", R6 NC "Not Connected.", R11 NC "Not Connected.", R12 NC "Not Connected.", R16 NC "Not Connected.", T4 NC "Not Connected.", T5 NC "Not Connected.", T12 NC "Not Connected.", T15 NC "Not Connected."
part A text: BANK 0
part B text: BANK 1

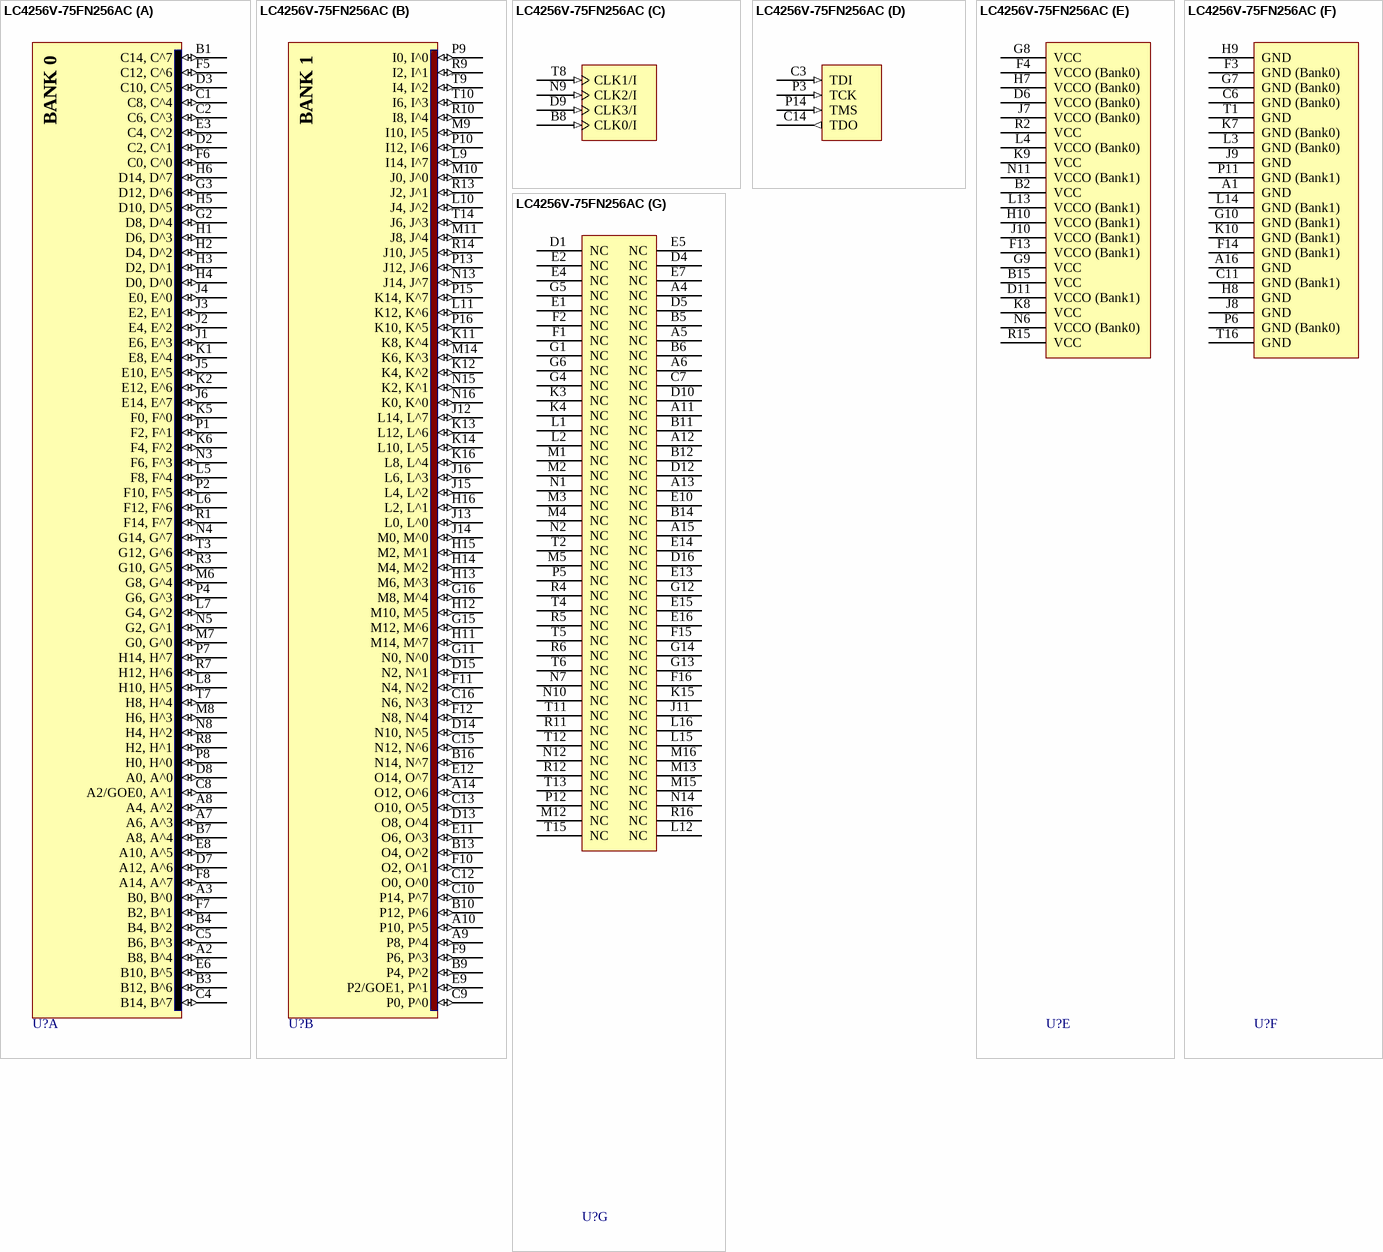
[diagram p71: symbol LC4256V-75FN256AC]

## LC4256V-75FN256AC
designator U?
ispMACH 4256 SuperFAST High Density PLD, 3.3 V, 128 User I/Os, 256-Ball Pb-Free fpBGA, 7.5 ns, Commercial Grade; DatasheetVersion: ver22.3, Mar-2007; PackageVersion: ver01.8, Dec-2008; PackageReference: fpBGA256; PackageDescription: 256-Ball Fine Pitch Ball Grid Array (fpBGA256); Code_IPC: BGA100P16X16-256; ComponentLink1Description: Manufacturer URL; ComponentLink1URL: http://www.latticesemi.com/; ComponentLink2Description: Datasheet; ComponentLink2URL: http://www.latticesemi.com/dynamic/view_document.cfm?document_id=3646
footprint fpBGA256 (BGA, 256-Leads, Body 17x17mm, Pitch 1mm)
part A pins: A2 B8, B^4 (io) "General purpose I/O.", A3 B0, B^0 (io) "General purpose I/O.", A7 A6, A^3 (io) "General purpose I/O.", A8 A4, A^2 (io) "General purpose I/O.", B1 C14, C^7 (io) "General purpose I/O.", B3 B12, B^6 (io) "General purpose I/O.", B4 B4, B^2 (io) "General purpose I/O.", B7 A8, A^4 (io) "General purpose I/O.", C1 C8, C^4 (io) "General purpose I/O.", C2 C6, C^3 (io) "General purpose I/O.", C4 B14, B^7 (io) "General purpose I/O.", C5 B6, B^3 (io) "General purpose I/O.", C8 A2/GOE0, A^1 (io) "Either Global Output Enable Input or general I/O.", D2 C2, C^1 (io) "General purpose I/O.", D3 C10, C^5 (io) "General purpose I/O.", D7 A12, A^6 (io) "General purpose I/O.", D8 A0, A^0 (io) "General purpose I/O.", E3 C4, C^2 (io) "General purpose I/O.", E6 B10, B^5 (io) "General purpose I/O.", E8 A10, A^5 (io) "General purpose I/O.", F5 C12, C^6 (io) "General purpose I/O.", F6 C0, C^0 (io) "General purpose I/O.", F7 B2, B^1 (io) "General purpose I/O.", F8 A14, A^7 (io) "General purpose I/O.", G2 D8, D^4 (io) "General purpose I/O.", G3 D12, D^6 (io) "General purpose I/O.", H1 D6, D^3 (io) "General purpose I/O.", H2 D4, D^2 (io) "General purpose I/O.", H3 D2, D^1 (io) "General purpose I/O.", H4 D0, D^0 (io) "General purpose I/O.", H5 D10, D^5 (io) "General purpose I/O.", H6 D14, D^7 (io) "General purpose I/O.", J1 E6, E^3 (io) "General purpose I/O.", J2 E4, E^2 (io) "General purpose I/O.", J3 E2, E^1 (io) "General purpose I/O.", J4 E0, E^0 (io) "General purpose I/O.", J5 E10, E^5 (io) "General purpose I/O.", J6 E14, E^7 (io) "General purpose I/O.", K1 E8, E^4 (io) "General purpose I/O.", K2 E12, E^6 (io) "General purpose I/O.", K5 F0, F^0 (io) "General purpose I/O.", K6 F4, F^2 (io) "General purpose I/O.", L5 F8, F^4 (io) "General purpose I/O.", L6 F12, F^6 (io) "General purpose I/O.", L7 G4, G^2 (io) "General purpose I/O.", L8 H10, H^5 (io) "General purpose I/O.", M6 G8, G^4 (io) "General purpose I/O.", M7 G0, G^0 (io) "General purpose I/O.", M8 H6, H^3 (io) "General purpose I/O.", N3 F6, F^3 (io) "General purpose I/O.", N4 G14, G^7 (io) "General purpose I/O.", N5 G2, G^1 (io) "General purpose I/O.", N8 H4, H^2 (io) "General purpose I/O.", P1 F2, F^1 (io) "General purpose I/O.", P2 F10, F^5 (io) "General purpose I/O.", P4 G6, G^3 (io) "General purpose I/O.", P7 H14, H^7 (io) "General purpose I/O.", P8 H0, H^0 (io) "General purpose I/O.", R1 F14, F^7 (io) "General purpose I/O.", R3 G10, G^5 (io) "General purpose I/O.", R7 H12, H^6 (io) "General purpose I/O.", R8 H2, H^1 (io) "General purpose I/O.", T3 G12, G^6 (io) "General purpose I/O.", T7 H8, H^4 (io) "General purpose I/O."
part B pins: A9 P8, P^4 (io) "General purpose I/O.", A10 P10, P^5 (io) "General purpose I/O.", A14 O12, O^6 (io) "General purpose I/O.", B9 P4, P^2 (io) "General purpose I/O.", B10 P12, P^6 (io) "General purpose I/O.", B13 O4, O^2 (io) "General purpose I/O.", B16 N14, N^7 (io) "General purpose I/O.", C9 P0, P^0 (io) "General purpose I/O.", C10 P14, P^7 (io) "General purpose I/O.", C12 O0, O^0 (io) "General purpose I/O.", C13 O10, O^5 (io) "General purpose I/O.", C15 N12, N^6 (io) "General purpose I/O.", C16 N6, N^3 (io) "General purpose I/O.", D13 O8, O^4 (io) "General purpose I/O.", D14 N10, N^5 (io) "General purpose I/O.", D15 N2, N^1 (io) "General purpose I/O.", E9 P2/GOE1, P^1 (io) "Either Global Output Enable Input or general I/O.", E11 O6, O^3 (io) "General purpose I/O.", E12 O14, O^7 (io) "General purpose I/O.", F9 P6, P^3 (io) "General purpose I/O.", F10 O2, O^1 (io) "General purpose I/O.", F11 N4, N^2 (io) "General purpose I/O.", F12 N8, N^4 (io) "General purpose I/O.", G11 N0, N^0 (io) "General purpose I/O.", G15 M12, M^6 (io) "General purpose I/O.", G16 M8, M^4 (io) "General purpose I/O.", H11 M14, M^7 (io) "General purpose I/O.", H12 M10, M^5 (io) "General purpose I/O.", H13 M6, M^3 (io) "General purpose I/O.", H14 M4, M^2 (io) "General purpose I/O.", H15 M2, M^1 (io) "General purpose I/O.", H16 L2, L^1 (io) "General purpose I/O.", J12 L14, L^7 (io) "General purpose I/O.", J13 L0, L^0 (io) "General purpose I/O.", J14 M0, M^0 (io) "General purpose I/O.", J15 L4, L^2 (io) "General purpose I/O.", J16 L6, L^3 (io) "General purpose I/O.", K11 K8, K^4 (io) "General purpose I/O.", K12 K4, K^2 (io) "General purpose I/O.", K13 L12, L^6 (io) "General purpose I/O.", K14 L10, L^5 (io) "General purpose I/O.", K16 L8, L^4 (io) "General purpose I/O.", L9 I14, I^7 (io) "General purpose I/O.", L10 J4, J^2 (io) "General purpose I/O.", L11 K12, K^6 (io) "General purpose I/O.", M9 I10, I^5 (io) "General purpose I/O.", M10 J0, J^0 (io) "General purpose I/O.", M11 J8, J^4 (io) "General purpose I/O.", M14 K6, K^3 (io) "General purpose I/O.", N13 J14, J^7 (io) "General purpose I/O.", N15 K2, K^1 (io) "General purpose I/O.", N16 K0, K^0 (io) "General purpose I/O.", P9 I0, I^0 (io) "General purpose I/O.", P10 I12, I^6 (io) "General purpose I/O.", P13 J12, J^6 (io) "General purpose I/O.", P15 K14, K^7 (io) "General purpose I/O.", P16 K10, K^5 (io) "General purpose I/O.", R9 I2, I^1 (io) "General purpose I/O.", R10 I8, I^4 (io) "General purpose I/O.", R13 J2, J^1 (io) "General purpose I/O.", R14 J10, J^5 (io) "General purpose I/O.", T9 I4, I^2 (io) "General purpose I/O.", T10 I6, I^3 (io) "General purpose I/O.", T14 J6, J^3 (io) "General purpose I/O."
part C pins: B8 CLK0/I (in) "Either CLK input or input.", D9 CLK3/I (in) "Either CLK input or input.", N9 CLK2/I (in) "Either CLK input or input.", T8 CLK1/I (in) "Either CLK input or input."
part D pins: C3 TDI (in) "Test Data Input. Loads data into device using 1149.1 state machine.", C14 TDO (out) "Test Data Output. Shifts data out of device using 1149.1.", P3 TCK (in) "Test Clock Input for 1149.1 state machine.", P14 TMS (in) "Test Mode Select Input to control 1149.1 state machine."
part E pins: B2 VCC (power) "Power supply for logic core and JTAG port.", B15 VCC (power) "Power supply for logic core and JTAG port.", D6 VCCO (Bank0) (power) "Power supply pin for I/O bank.", D11 VCCO (Bank1) (power) "Power supply pin for I/O bank.", F4 VCCO (Bank0) (power) "Power supply pin for I/O bank.", F13 VCCO (Bank1) (power) "Power supply pin for I/O bank.", G8 VCC (power) "Power supply for logic core and JTAG port.", G9 VCC (power) "Power supply for logic core and JTAG port.", H7 VCCO (Bank0) (power) "Power supply pin for I/O bank.", H10 VCCO (Bank1) (power) "Power supply pin for I/O bank.", J7 VCCO (Bank0) (power) "Power supply pin for I/O bank.", J10 VCCO (Bank1) (power) "Power supply pin for I/O bank.", K8 VCC (power) "Power supply for logic core and JTAG port.", K9 VCC (power) "Power supply for logic core and JTAG port.", L4 VCCO (Bank0) (power) "Power supply pin for I/O bank.", L13 VCCO (Bank1) (power) "Power supply pin for I/O bank.", N6 VCCO (Bank0) (power) "Power supply pin for I/O bank.", N11 VCCO (Bank1) (power) "Power supply pin for I/O bank.", R2 VCC (power) "Power supply for logic core and JTAG port.", R15 VCC (power) "Power supply for logic core and JTAG port."
part F pins: A1 GND (power) "Ground", A16 GND (power) "Ground", C6 GND (Bank0) (power) "I/O Ground", C11 GND (Bank1) (power) "I/O Ground", F3 GND (Bank0) (power) "I/O Ground", F14 GND (Bank1) (power) "I/O Ground", G7 GND (Bank0) (power) "I/O Ground", G10 GND (Bank1) (power) "I/O Ground", H8 GND (power) "Ground", H9 GND (power) "Ground", J8 GND (power) "Ground", J9 GND (power) "Ground", K7 GND (Bank0) (power) "I/O Ground", K10 GND (Bank1) (power) "I/O Ground", L3 GND (Bank0) (power) "I/O Ground", L14 GND (Bank1) (power) "I/O Ground", P6 GND (Bank0) (power) "I/O Ground", P11 GND (Bank1) (power) "I/O Ground", T1 GND (power) "Ground", T16 GND (power) "Ground"
part G pins: A4 NC "Not Connected.", A5 NC "Not Connected.", A6 NC "Not Connected.", A11 NC "Not Connected.", A12 NC "Not Connected.", A13 NC "Not Connected.", A15 NC "Not Connected.", B5 NC "Not Connected.", B6 NC "Not Connected.", B11 NC "Not Connected.", B12 NC "Not Connected.", B14 NC "Not Connected.", C7 NC "Not Connected.", D1 NC "Not Connected.", D4 NC "Not Connected.", D5 NC "Not Connected.", D10 NC "Not Connected.", D12 NC "Not Connected.", D16 NC "Not Connected.", E1 NC "Not Connected.", E2 NC "Not Connected.", E4 NC "Not Connected.", E5 NC "Not Connected.", E7 NC "Not Connected.", E10 NC "Not Connected.", E13 NC "Not Connected.", E14 NC "Not Connected.", E15 NC "Not Connected.", E16 NC "Not Connected.", F1 NC "Not Connected.", F2 NC "Not Connected.", F15 NC "Not Connected.", F16 NC "Not Connected.", G1 NC "Not Connected.", G4 NC "Not Connected.", G5 NC "Not Connected.", G6 NC "Not Connected.", G12 NC "Not Connected.", G13 NC "Not Connected.", G14 NC "Not Connected.", J11 NC "Not Connected.", K3 NC "Not Connected.", K4 NC "Not Connected.", K15 NC "Not Connected.", L1 NC "Not Connected.", L2 NC "Not Connected.", L12 NC "Not Connected.", L15 NC "Not Connected.", L16 NC "Not Connected.", M1 NC "Not Connected.", M2 NC "Not Connected.", M3 NC "Not Connected.", M4 NC "Not Connected.", M5 NC "Not Connected.", M12 NC "Not Connected.", M13 NC "Not Connected.", M15 NC "Not Connected.", M16 NC "Not Connected.", N1 NC "Not Connected.", N2 NC "Not Connected.", N7 NC "Not Connected.", N10 NC "Not Connected.", N12 NC "Not Connected.", N14 NC "Not Connected.", P5 NC "Not Connected.", P12 NC "Not Connected.", R4 NC "Not Connected.", R5 NC "Not Connected.", R6 NC "Not Connected.", R11 NC "Not Connected.", R12 NC "Not Connected.", R16 NC "Not Connected.", T2 NC "Not Connected.", T4 NC "Not Connected.", T5 NC "Not Connected.", T6 NC "Not Connected.", T11 NC "Not Connected.", T12 NC "Not Connected.", T13 NC "Not Connected.", T15 NC "Not Connected."
part A text: BANK 0
part B text: BANK 1

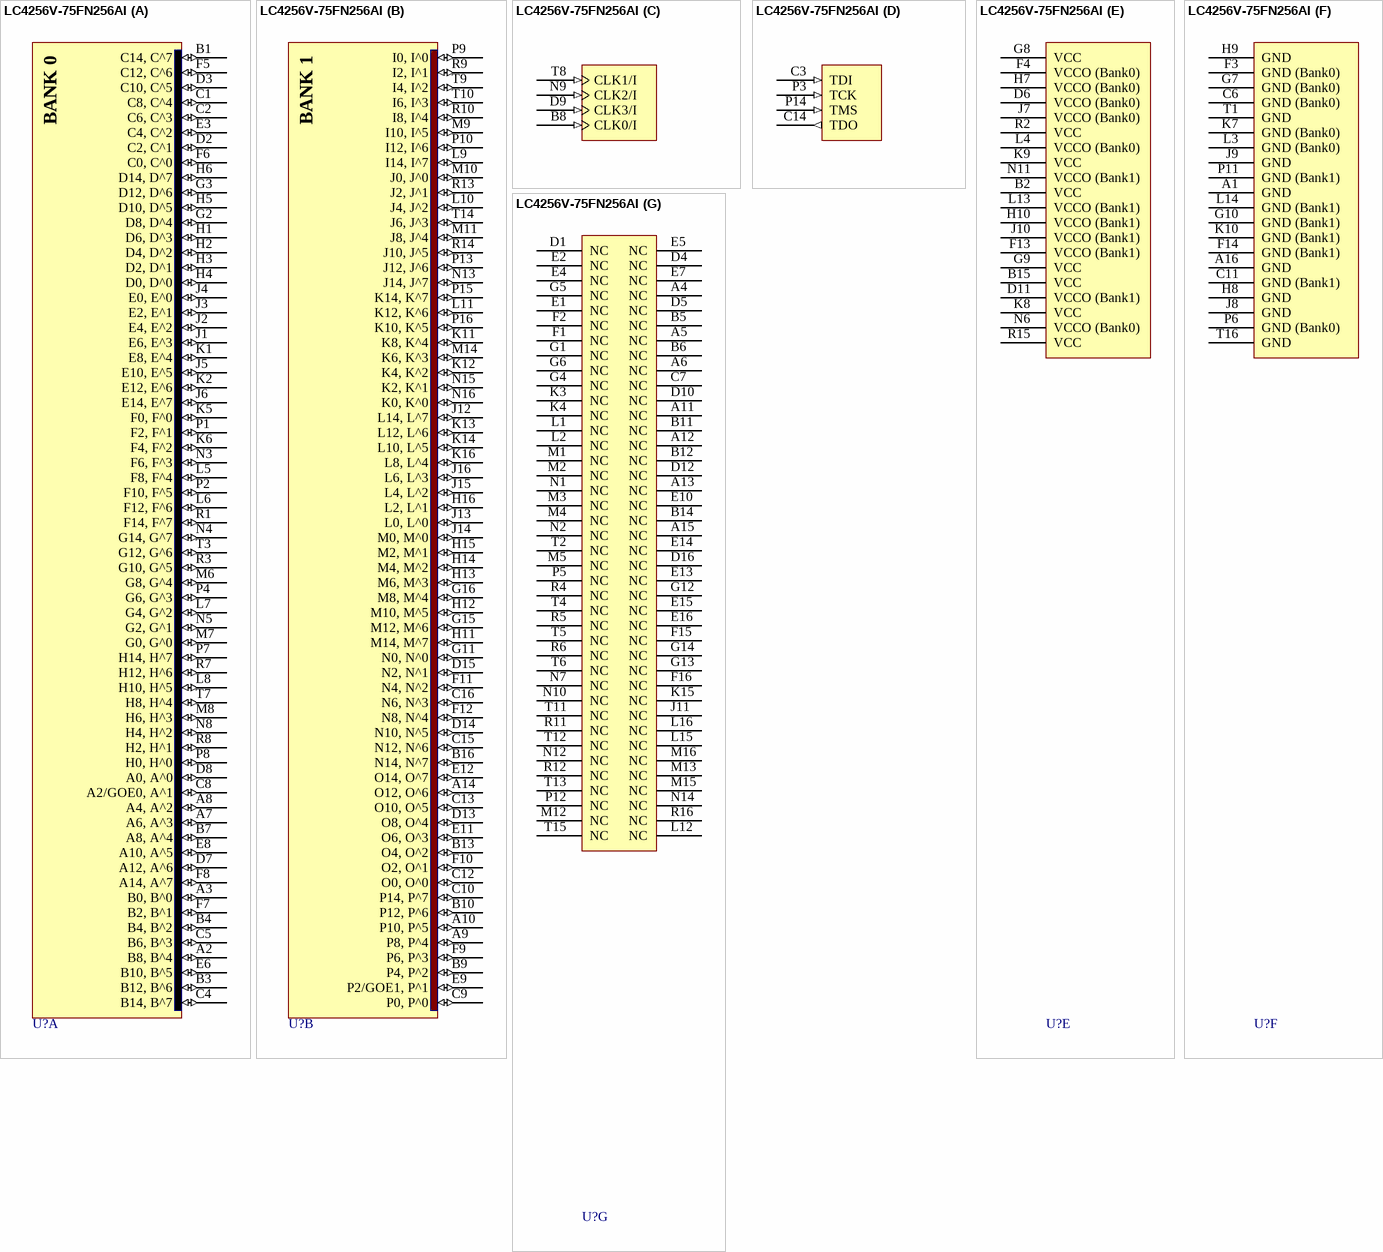
[diagram p72: symbol LC4256V-75FN256AI]